# Altium footprint library ABM11.PCBLIB: 2 footprints
Each footprint in its own frame and in the unit in brackets; x right, y up, seen from the top. Pads: shape width x height; smd on the part's side, far side on the other; paste and mask are expansions set on the pad; w line width, h text height; cw(c..) or ccw(c..) is an arc to the next point about the centre after c.
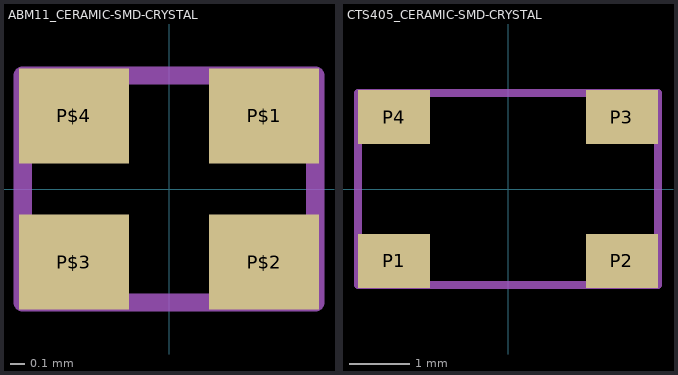
[diagram p0: the footprints below, top view; thin cyan lines are the x and y axes]

## ABM11_CERAMIC-SMD-CRYSTAL [mil]
pads (4):
  rect 30x26 smd: P$1(26,20) P$2(26,-20) P$3(-26,-20) P$4(-26,20)
Mechanical 2:
  lines w5: -40,-31 40,-31 40,31 -40,31 -40,-31

## CTS405_CERAMIC-SMD-CRYSTAL [mil]
pads (4):
  rect 47.24x35.43 smd: P1(-74.8,-47.24) P2(74.8,-47.24) P3(74.8,47.24) P4(-74.8,47.24)
Mechanical 2:
  lines w5: -98.43,-62.99 98.43,-62.99 98.43,62.99 -98.43,62.99 -98.43,-62.99